# Altium schematic symbol library GENERIC_NPN_EBC.Schlib: 1 symbol
Pins are listed as number, name and electrical type; pins without a type are passive.

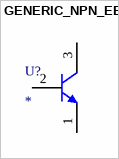
[diagram p0: symbol GENERIC_NPN_EBC]

## GENERIC_NPN_EBC
designator U?
pins: 1 E, 2 B, 3 C